# Altium footprint library WS485H-V5_RS.PcbLib: 34 footprints (part 2 of 3)
Each footprint in its own frame and in the unit in brackets; x right, y up, seen from the top. Pads: shape width x height; smd on the part's side, far side on the other; paste and mask are expansions set on the pad; w line width, h text height; cw(c..) or ccw(c..) is an arc to the next point about the centre after c.
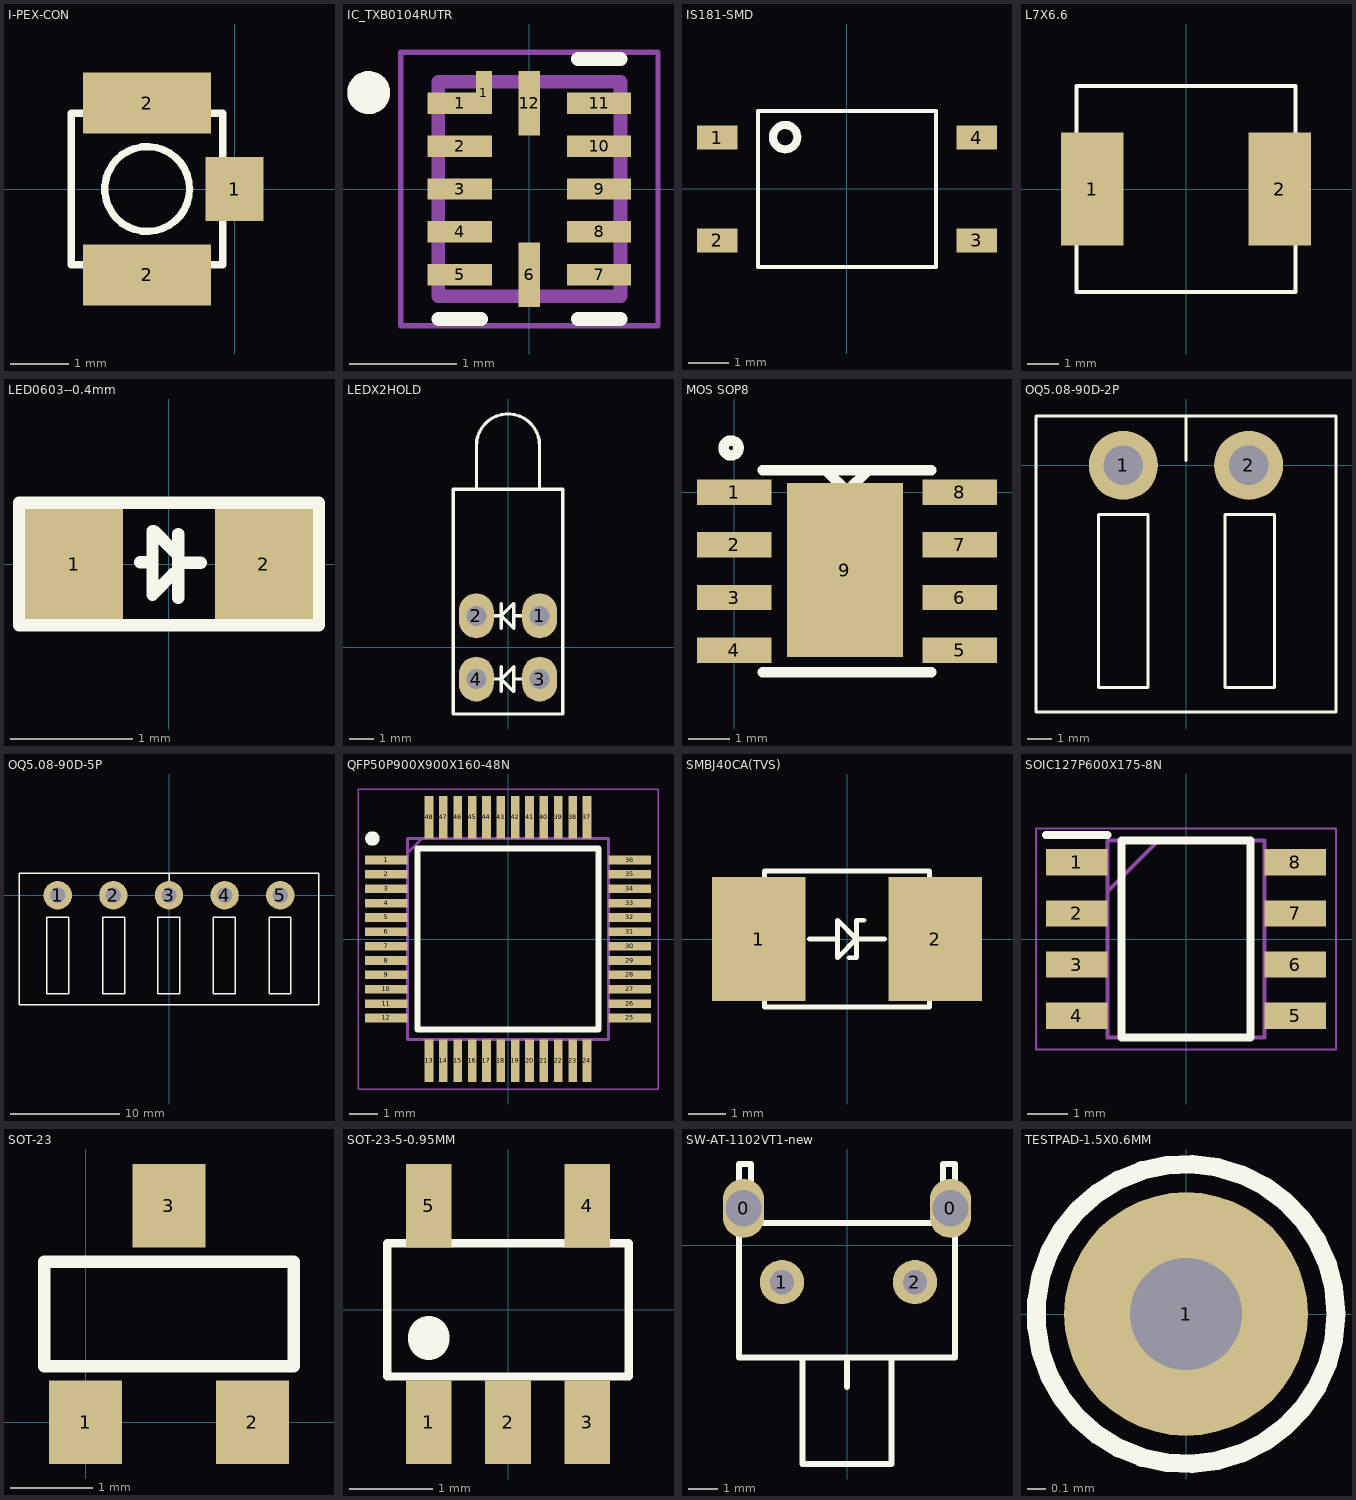
[diagram p1: the footprints below, top view; thin cyan lines are the x and y axes]

## I-PEX-CON [mm]
pads (3):
  rect 1x1.1 smd: 1(0,0)
  rect 2.2x1.05 smd: 2(-1.5,-1.475) 2(-1.5,1.475)
Top Overlay:
  circle w0.127: c-1.5,0 r0.728
  lines w0.127: -2.8,-1.3 -2.8,1.3 -0.2,1.3 -0.2,-1.3 -2.8,-1.3
3D body "User Library-IPEX.STEP": height 1.25, standoff -0.01, extent -3.05,-1.5 0.05,1.5

## IC_TXB0104RUTR [mm]
pads (13):
  rect 0.6x0.2 smd paste-1 mask+0: 1(-0.65,0.8) 2(-0.65,0.4) 3(-0.65,0) 4(-0.65,-0.4) 5(-0.65,-0.8) 7(0.65,-0.8) 8(0.65,-0.4) 9(0.65,0) 10(0.65,0.4) 11(0.65,0.8)
  rect 0.15x0.4 smd paste-1 mask+0: 1(-0.425,0.9)
  rect 0.2x0.6 smd paste-1 mask+0: 6(0,-0.8) 12(0,0.8)
Top Overlay:
  circle w0.2: c-1.5,0.9 r0.1
  lines w0.127: -0.85,-1.214 -0.45,-1.214 ; 0.45,-1.214 0.85,-1.214 ; 0.45,1.214 0.85,1.214
Top Paste:
  region: -0.35,-0.1 -0.85,-0.1 -0.85,0.1 -0.35,0.1
  region: 0.85,-0.1 0.35,-0.1 0.35,0.1 0.85,0.1
  region: -0.35,0.3 -0.85,0.3 -0.85,0.5 -0.35,0.5
  region: -0.35,-0.5 -0.85,-0.5 -0.85,-0.3 -0.35,-0.3
  region: -0.35,-0.9 -0.85,-0.9 -0.85,-0.7 -0.35,-0.7
  region: 0.85,-0.5 0.35,-0.5 0.35,-0.3 0.85,-0.3
  region: 0.85,-0.9 0.35,-0.9 0.35,-0.7 0.85,-0.7
  region: 0.85,0.3 0.35,0.3 0.35,0.5 0.85,0.5
  region: 0.85,0.7 0.35,0.7 0.35,0.9 0.85,0.9
  region: 0.1,0.5 -0.1,0.5 -0.1,1 0.1,1
  region: 0.1,-1 -0.1,-1 -0.1,-0.5 0.1,-0.5
  region: -0.35,0.7 -0.85,0.7 -0.85,0.9 -0.5,0.9 -0.5,1 -0.35,1
Top Solder:
  region: -0.3,-0.15 -1,-0.15 -1,0.15 -0.3,0.15
  region: 1,-0.15 0.3,-0.15 0.3,0.15 1,0.15
  region: -0.3,0.25 -1,0.25 -1,0.55 -0.3,0.55
  region: -0.3,-0.55 -1,-0.55 -1,-0.25 -0.3,-0.25
  region: -0.3,-0.95 -1,-0.95 -1,-0.65 -0.3,-0.65
  region: 1,-0.55 0.3,-0.55 0.3,-0.25 1,-0.25
  region: 1,-0.95 0.3,-0.95 0.3,-0.65 1,-0.65
  region: 1,0.25 0.3,0.25 0.3,0.55 1,0.55
  region: 1,0.65 0.3,0.65 0.3,0.95 1,0.95
  region: 0.15,0.45 -0.15,0.45 -0.15,1.15 0.15,1.15
  region: 0.15,-1.15 -0.15,-1.15 -0.15,-0.45 0.15,-0.45
  region: -0.3,0.65 -1,0.65 -1,0.95 -0.55,0.95 -0.55,1.15 -0.3,1.15
Mechanical 13:
  circle w0.2: c-1.5,0.9 r0.1
  lines w0.127: -0.85,-1 0.85,-1 0.85,1 -0.85,1 -0.85,-1
Mechanical 15:
  lines w0.05: -1.2,-1.277 1.2,-1.277 1.2,1.277 -1.2,1.277 -1.2,-1.277

## IS181-SMD [mm] "IS181-SMD"
pads (4):
  rect 1x0.6 smd: 1(-3.2,1.27) 2(-3.2,-1.27) 3(3.2,-1.27) 4(3.2,1.27)
Top Overlay:
  lines w0.1: -2.2,-1.925 -2.2,1.925 2.2,1.925 2.2,-1.925 -2.2,-1.925
  lines w0.2: -1.825,1.275 ccw(c-1.525,1.279) -1.825,1.283
3D body "User Library-SFH6156.STEP": height 3.83, standoff 0.08, extent -4.288,-2.29 4.288,2.29

## L7X6.6 [mm] "L7X6.6"
pads (2):
  rect 2x3.6 smd: 1(-3,0) 2(3,0)
Top Overlay:
  lines w0.127: -3.5,-3.3 -3.5,3.3 3.5,3.3 3.5,-3.3 -3.5,-3.3
3D body "70281712.stp": height 1.77, standoff -2.22, extent -3.594,-3.251 3.594,3.251

## LED0603--0.4mm [mm] "LED0603--0.4mm"
pads (2):
  rect 0.8x0.9 smd: 1(-0.775,0) 2(0.775,0)
Top Overlay:
  lines w0.1: -0.235,0.015 -0.16,0.015 ; -0.135,-0.251 -0.135,0.269 ; -0.124,0.269 0.045,0.1 ; -0.121,-0.236 0.035,-0.08 ; 0.075,-0.275 0.075,0.245 ; 0.08,0.01 0.26,0.01 ; -1.225,-0.5 1.225,-0.5 1.225,0.5 -1.225,0.5 -1.225,-0.5
3D body "User Library-LED SMD0603.STEP": height 0.68, standoff 0, extent -0.812,-0.363 0.838,0.363

## LEDX2HOLD [mm]
pads (4):
  oval 1.4x1.8 hole 0.8: 1(1.27,1.27) 2(-1.27,1.27) 3(1.27,-1.27) 4(-1.27,-1.27)
Top Overlay:
  lines w0.127: -1.27,-1.27 -0.27,-1.27 ; -1.27,1.27 -0.27,1.27 ; -1.27,6.35 -1.27,8.1 ; -1.27,8.097 cw(c0,8.1) 1.27,8.097 ; -0.27,-1.77 -0.27,-0.77 ; -0.27,0.77 -0.27,1.77 ; 0.229,-1.269 1.269,-1.269 ; 0.229,1.271 1.269,1.271 ; 1.27,6.35 1.27,8.1 ; -2.2,-2.67 2.2,-2.67 2.2,6.35 -2.2,6.35 -2.2,-2.67 ; -0.269,-1.271 0.23,-1.77 0.23,-0.77 -0.269,-1.269 ; -0.269,1.269 0.23,0.77 0.23,1.77 -0.269,1.271

## MOS SOP8 [mil]
pads (9):
  rect 70.87x24 smd: 1(0,0) 2(0,-50) 3(0,-100) 4(0,-150) 5(214,-150) 6(214,-100) 7(214,-50) 8(214,0)
  rect 110.24x165.35 smd: 9(105,-74)
Top Overlay:
  circle w10: c-3.07,42 r7.07
  lines w10: 27,-171 187,-171 ; 27,21 187,21 ; 87,21 107,1 127,21
Top Solder:
  rectangle: 59,-166.18 154,15.82
Bottom Solder:
  rectangle: 40,-165.82 174,16.18

## OQ5.08-90D-2P [mm]
pads (2):
  round 2.8 hole 1.6: 1(-2.54,0) 2(2.54,0)
Top Overlay:
  lines w0.127: 0,0.2 0,2 ; -6.08,-10 -6.08,2 6.08,2 6.08,-10 -6.08,-10 ; -3.54,-9 -1.54,-9 -1.54,-2 -3.54,-2 -3.54,-9 ; 1.58,-9 3.58,-9 3.58,-2 1.58,-2 1.58,-9
3D body "User Library-TB5_08-2R.STEP": height 8.55, standoff -4.1, extent -6.08,-10 6.08,2

## OQ5.08-90D-5P [mm]
pads (5):
  round 2.6 hole 1.4: 1(-10.16,0) 2(-5.08,0) 3(0,0) 4(5.08,0) 5(10.16,0)
Top Overlay:
  lines w0.127: 0,0.2 0,2 ; -13.7,-10 -13.7,2 13.7,2 13.7,-10 -13.7,-10 ; -11.16,-9 -9.16,-9 -9.16,-2 -11.16,-2 -11.16,-9 ; -6.04,-9 -4.04,-9 -4.04,-2 -6.04,-2 -6.04,-9 ; -1.04,-9 0.96,-9 0.96,-2 -1.04,-2 -1.04,-9 ; 4.04,-9 6.04,-9 6.04,-2 4.04,-2 4.04,-9 ; 4.06,-9 6.06,-9 6.06,-2 4.06,-2 4.06,-9 ; 9.14,-9 11.14,-9 11.14,-2 9.14,-2 9.14,-9
3D body "User Library-TB5_08-5R.STEP": height 8.55, standoff -4.1, extent -13.7,-10 13.7,2

## QFP50P900X900X160-48N [mm]
pads (48):
  rect 1.475x0.3 smd: 1(-4.238,2.75) 2(-4.238,2.25) 3(-4.238,1.75) 4(-4.238,1.25) 5(-4.238,0.75) 6(-4.238,0.25) 7(-4.238,-0.25) 8(-4.238,-0.75) 9(-4.238,-1.25) 10(-4.238,-1.75) 11(-4.238,-2.25) 12(-4.238,-2.75) 25(4.238,-2.75) 26(4.238,-2.25) 27(4.238,-1.75) 28(4.238,-1.25) 29(4.238,-0.75) 30(4.238,-0.25) 31(4.238,0.25) 32(4.238,0.75) 33(4.238,1.25) 34(4.238,1.75) 35(4.238,2.25) 36(4.238,2.75)
  rect 0.3x1.475 smd: 13(-2.75,-4.238) 14(-2.25,-4.238) 15(-1.75,-4.238) 16(-1.25,-4.238) 17(-0.75,-4.238) 18(-0.25,-4.238) 19(0.25,-4.238) 20(0.75,-4.238) 21(1.25,-4.238) 22(1.75,-4.238) 23(2.25,-4.238) 24(2.75,-4.238) 37(2.75,4.238) 38(2.25,4.238) 39(1.75,4.238) 40(1.25,4.238) 41(0.75,4.238) 42(0.25,4.238) 43(-0.25,4.238) 44(-0.75,4.238) 45(-1.25,4.238) 46(-1.75,4.238) 47(-2.25,4.238) 48(-2.75,4.238)
Top Overlay:
  circle w0.25: c-4.725,3.5 r0.125
  lines w0.2: -3.15,-3.15 -3.15,3.15 3.15,3.15 3.15,-3.15 -3.15,-3.15
Mechanical 13:
  lines w0.1: -3.5,3 -3,3.5 ; -3.5,-3.5 -3.5,3.5 3.5,3.5 3.5,-3.5 -3.5,-3.5
Mechanical 15:
  lines w0.05: -5.225,-5.225 -5.225,5.225 5.225,5.225 5.225,-5.225 -5.225,-5.225
3D body "STM32F301C8T6.stp": height 1.6, standoff 0, extent -4.5,-4.5 4.5,4.5

## SMBJ40CA(TVS) [mm] "SMBJ40CA(TVS)"
pads (2):
  rect 2.5x3.3 smd: 1(-2.35,0) 2(2.35,0)
Top Overlay:
  lines w0.127: -1,0 -0.25,0 ; 0.05,-0.5 0.25,-0.5 0.25,0.5 0.45,0.5 ; 1,0 0.25,0 ; 0.25,0 -0.25,0.5 -0.25,-0.5 0.25,0 ; -2.2,-1.813 2.2,-1.813 2.2,1.813 -2.2,1.813 -2.2,-1.813

## SOIC127P600X175-8N [mm]
pads (8):
  rect 1.525x0.65 smd: 1(-2.712,1.905) 2(-2.712,0.635) 3(-2.712,-0.635) 4(-2.712,-1.905) 5(2.712,-1.905) 6(2.712,-0.635) 7(2.712,0.635) 8(2.712,1.905)
Top Overlay:
  lines w0.2: -3.475,2.58 -1.95,2.58 ; -1.6,-2.45 1.6,-2.45 1.6,2.45 -1.6,2.45 -1.6,-2.45
Mechanical 13:
  lines w0.1: -1.95,1.18 -0.68,2.45 ; -1.95,-2.45 1.95,-2.45 1.95,2.45 -1.95,2.45 -1.95,-2.45
Mechanical 15:
  lines w0.05: -3.725,-2.75 3.725,-2.75 3.725,2.75 -3.725,2.75 -3.725,-2.75
3D body "NE555DR.stp": height 1.75, standoff 0, extent -3,-2.45 3,2.45

## SOT-23 [mil]
pads (3):
  rect 35x40 smd: 1(0,0) 2(80,0) 3(40,104)
Top Overlay:
  lines w6: -20,27 -20,77 100,77 100,27 -20,27
3D body "ALSRobot-SOT23.sldprt": height 42.52, standoff 0, extent -19.06,0.03 99.06,103.97

## SOT-23-5-0.95MM [mm] "SOT-23-5-0.95MM"
pads (5):
  rect 0.55x1 smd: 1(-0.95,-1.35) 2(0,-1.35) 3(0.95,-1.35) 4(0.95,1.25) 5(-0.95,1.25)
Top Overlay:
  lines w0.1: -1.45,-0.8 1.45,-0.8 1.45,0.8 -1.45,0.8 -1.45,-0.8
  lines w0.5: -0.95,-0.35 -0.95,-0.325
3D body "CircuitWorks-SOT-23-5.sldprt": height 1.1, standoff 0, extent -1.5,-1.25 1.5,1.25

## SW-AT-1102VT1-new [mm] "SW-AT-1102VT1-new"
pads (4):
  oval 1.4x2 hole 1.227: 0(-3.5,1.25) 0(3.5,1.25)
  round 1.5 hole 0.827: 1(-2.2,-1.25) 2(2.3,-1.25)
Top Overlay:
  lines w0.203: -3.6,0.75 3.7,0.75 ; -3.25,0.85 -3.25,2.75 -3.65,2.75 -3.65,-3.8 0,-3.8 ; -1.5,-3.8 -1.5,-7.4 1.5,-7.4 1.5,-3.8 ; 0,-4.8 0,-3.8 ; 3.25,0.85 3.25,2.75 3.65,2.75 3.65,-3.8 0,-3.8

## TESTPAD-1.5X0.6MM [mm]
pads (1):
  round 1.3 hole 0.6: 1(0,0)
Top Overlay:
  circle w0.1: c0,0 r0.8